# Altium footprint library QUAN-AD-Library.PcbLib: 213 footprints (part 4 of 14)
Each footprint in its own frame and in the unit in brackets; x right, y up, seen from the top. Pads: shape width x height; smd on the part's side, far side on the other; paste and mask are expansions set on the pad; w line width, h text height; cw(c..) or ccw(c..) is an arc to the next point about the centre after c.
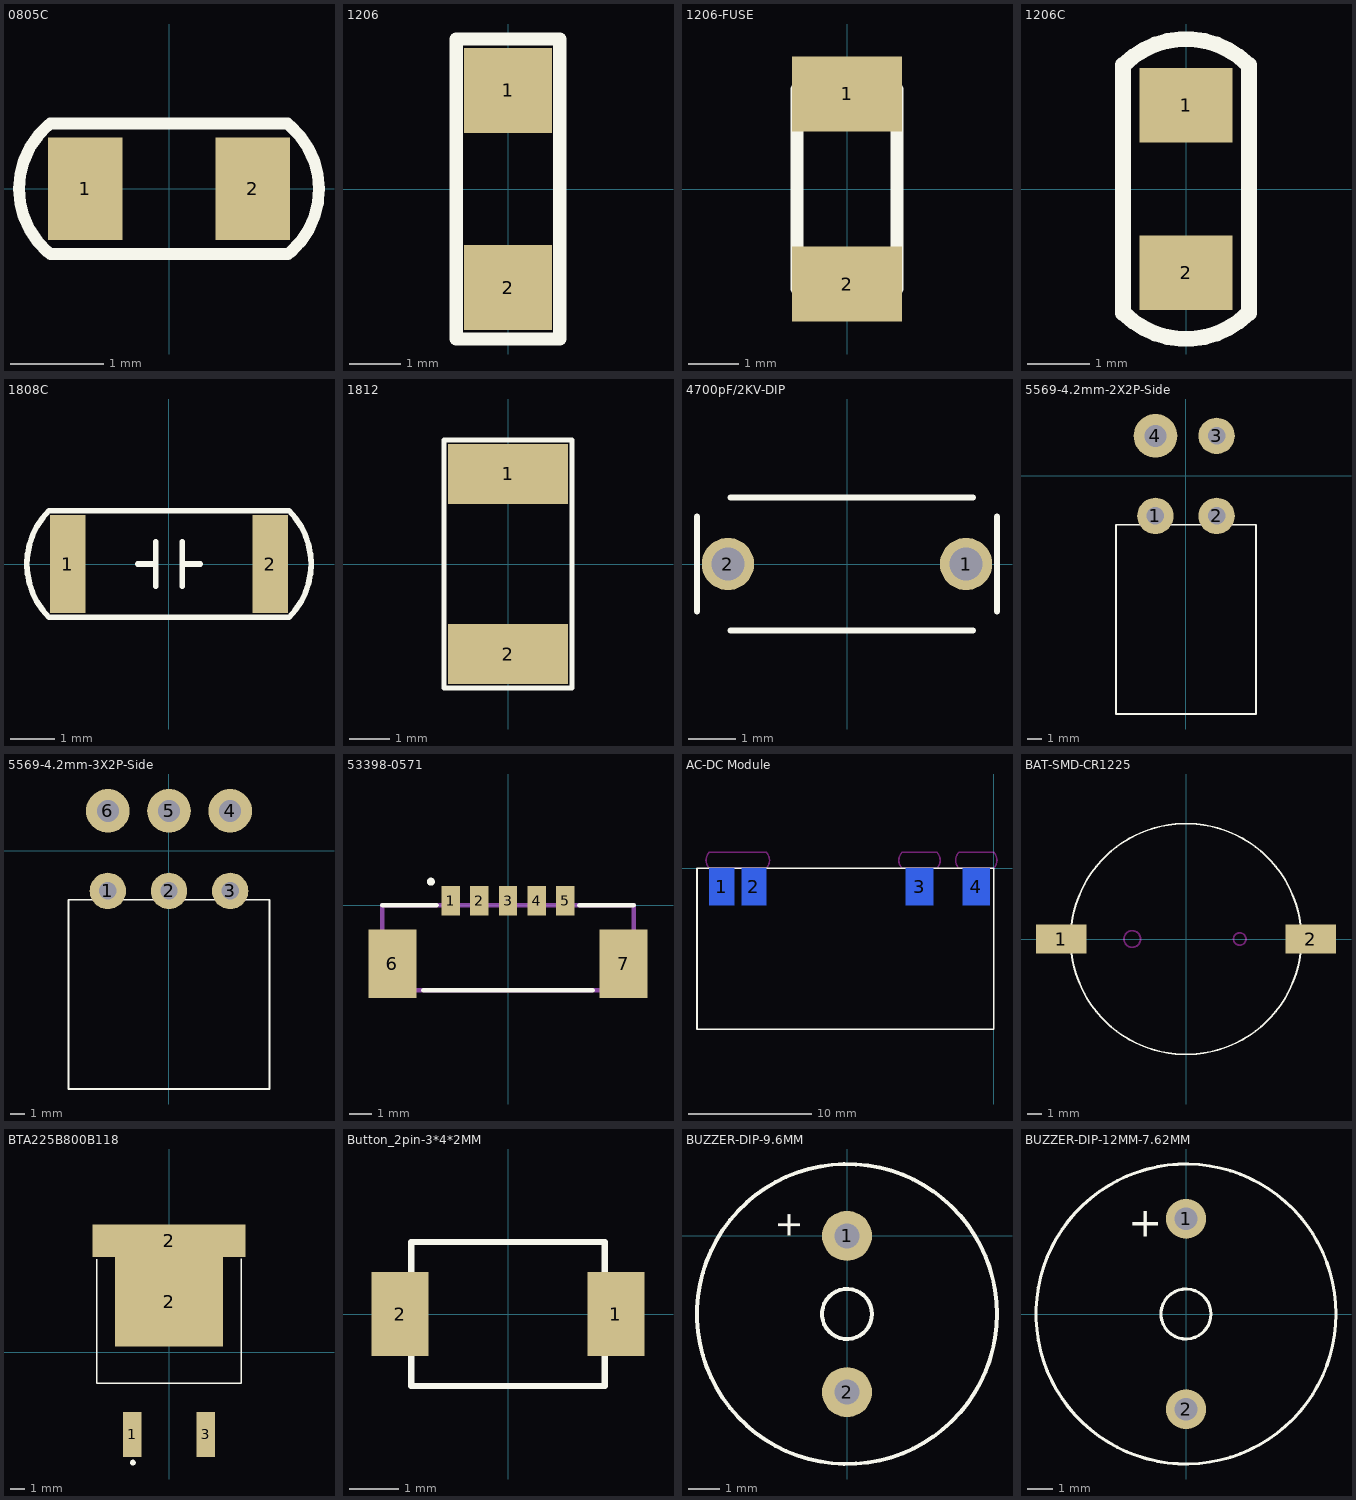
[diagram p3: the footprints below, top view; thin cyan lines are the x and y axes]

## 0805C [mm] "0805C"
pads (2):
  rect 0.8x1.1 smd: 1(-0.9,0) 2(0.9,0)
Top Overlay:
  lines w0.127: -1.3,0.679 ccw(c-0.71,0) -1.3,-0.68 ; -1.275,0.7 1.274,0.7 ; -1.273,-0.699 1.276,-0.699 ; 1.298,0.677 cw(c0.71,-0.004) 1.304,-0.68

## 1206 [mm] "1206"
pads (2):
  rect 1.7x1.65 smd: 1(0,1.905) 2(0,-1.905)
Top Overlay:
  lines w0.254: -1,-2.9 -1,2.9 1,2.9 1,-2.9 -1,-2.9

## 1206-FUSE [mm] "1206-FUSE"
pads (2):
  rect 2.2x1.5 smd: 1(0,1.905) 2(0,-1.905)
Top Overlay:
  lines w0.254: -1,-2 1,-2 1,2 -1,2 -1,-2

## 1206C [mm] "1206C"
pads (2):
  rect 1.5x1.2 smd: 1(0,1.35) 2(0,-1.35)
Top Overlay:
  lines w0.254: -1.016,-2 -1.016,2 ; -1,-2 ccw(c0,-1) 1,-2 ; -1,2 cw(c0,1) 1,2 ; 1.016,-2 1.016,2

## 1808C [mm] "1808C"
pads (2):
  rect 0.8x2.2 smd: 1(-2.275,0) 2(2.275,0)
Top Overlay:
  lines w0.127: -0.7,0 -0.3,0 ; -0.3,-0.5 -0.3,0.5 ; 0.3,-0.5 0.3,0.5 ; 0.3,0 0.7,0 ; -2.7,-1.2 cw(c-1.5,0) -2.7,1.2 2.7,1.2 cw(c1.5,0) 2.7,-1.2 -2.7,-1.2

## 1812 [mm]
pads (2):
  rect 3x1.5 smd: 1(0,2.25) 2(0,-2.25)
Top Overlay:
  lines w0.127: -1.6,-3.1 -1.6,3.1 1.6,3.1 1.6,-3.1 -1.6,-3.1

## 4700pF/2KV-DIP [mm] "4700pF/2KV-DIP"
pads (2):
  round 1.1 hole 0.7: 1(2.5,0) 2(-2.5,0)
Top Overlay:
  lines w0.127: -3.15,-1 -3.15,1 ; -2.45,-1.4 2.65,-1.4 ; -2.45,1.4 2.65,1.4 ; 3.15,-1 3.15,1

## 5569-4.2mm-2X2P-Side [mm] "5569-4.2mm-2X2P-Side"
pads (4):
  round 2.5 hole 1.2: 1(-2.1,-2.75) 2(2.1,-2.75) 3(2.1,2.75)
  round 3 hole 1.5: 4(-2.1,2.75)
Top Overlay:
  lines w0.127: -4.8,-16.35 -4.8,-3.35 4.8,-3.35 4.8,-16.35 -4.8,-16.35

## 5569-4.2mm-3X2P-Side [mm] "5569-4.2mm-3X2P-Side"
pads (6):
  round 2.5 hole 1.2: 1(-4.2,-2.75) 2(0,-2.75) 3(4.2,-2.75)
  round 3 hole 1.5: 4(4.2,2.75) 5(0,2.75) 6(-4.2,2.75)
Top Overlay:
  lines w0.127: -6.9,-16.35 -6.9,-3.35 6.9,-3.35 6.9,-16.35 -6.9,-16.35

## 53398-0571 [mm]
pads (7):
  rect 0.8x1.3 smd: 1(-2.5,0.2) 2(-1.25,0.2) 3(0,0.2) 4(1.25,0.2) 5(2.5,0.2)
  rect 2.1x3 smd: 6(-5.05,-2.55) 7(5.05,-2.55)
Top Overlay:
  circle w0.2: c-3.366,1.031 r0.077
  lines w0.2: -5.5,0 -3.122,0 ; -3.7,-3.7 3.7,-3.7 ; 3.111,0 5.5,0
Mechanical 13:
  lines w0.2: -5.5,-3.7 -5.5,0 5.5,0 5.5,-3.7 -5.5,-3.7
3D body "53398-0571.stp": height 4.74, standoff 0, extent -5.7,-3.71 5.7,0.49

## AC-DC Module [mm] "AC-DC Module"
pads (4):
  rect 2x3 smd far side: 1(-22,-1.5) 2(-19.4,-1.5)
  rect 2.2x3 smd far side: 3(-6,-1.5) 4(-1.4,-1.5)
Top Overlay:
  lines w0.127: -24,-13 -24,0 0,0 0,-13 -24,-13
Bottom Overlay:
  text "AC1" at -5.075,-4.5 h0.8
  text "AC2" at -0.35,-4.5 h0.8
  text "5V" at -18.2,-3.425 h0.8
  text "GND" at -24.25,-2.775 h0.8
Keep-Out Layer:
  lines w0.127: -23,0 cw(c-22.35,0.65) -23,1.3 -18.4,1.3 cw(c-19.05,0.65) -18.4,0 ; -23,0 -18.4,0 ; -23,0 -18.4,0 ; -7.4,0 cw(c-6.75,0.65) -7.4,1.3 -4.6,1.3 cw(c-5.25,0.65) -4.6,0 -7.4,0 ; -2.8,0 cw(c-2.15,0.65) -2.8,1.3 0,1.3 cw(c-0.65,0.65) 0,0 -2.8,0

## BAT-SMD-CR1225 [mm] "BAT-SMD-CR1225"
pads (2):
  rect 3.5x2 smd: 1(-8.65,0) 2(8.65,0)
Top Overlay:
  circle w0.127: c0,0 r8
Keep-Out Layer:
  circle w0.127: c-3.725,0 r0.575
  circle w0.127: c3.725,0 r0.43

## BTA225B800B118 [mm]
pads (4):
  rect 1.3x3.1 smd: 1(-2.54,-5.687) 3(2.54,-5.687)
  rect 7.5x6.2 smd: 2(0,3.513)
  rect 10.6x2.25 smd: 2(0,7.738)
Top Overlay:
  lines w0.1: -5,6.45 -5,-2.137 5,-2.137 5,6.475
  lines w0.2: -2.6,-7.638 cw(c-2.5,-7.638) -2.4,-7.638 cw(c-2.5,-7.638) -2.6,-7.638

## Button_2pin-3*4*2MM [mm] "Button_2pin-3*4*2MM"
pads (2):
  rect 1.15x1.7 smd: 1(2.175,0) 2(-2.175,0)
Top Overlay:
  lines w0.127: -1.95,-1.45 -1.95,1.45 1.95,1.45 1.95,-1.45 -1.95,-1.45

## BUZZER-DIP-9.6MM [mm] "BUZZER-DIP-9.6MM"
pads (2):
  round 1.6 hole 0.8: 1(0,0) 2(0,-5)
Top Overlay:
  circle w0.127: c0,-2.5 r0.8
  circle w0.127: c0,-2.5 r4.8
  text "+" at -1.5,0.8 h0.8

## BUZZER-DIP-12MM-7.62MM [mm]
pads (2):
  round 1.6 hole 0.9: 1(0,3.81) 2(0,-3.81)
Top Overlay:
  circle w0.127: c0,0 r6
  circle w0.127: c0,0 r1
  text "+" at -2.3,3.1 h1.2